# EAGLE library part BAS40BRW (library Diodes)
200mW Schottky Barrier Diode Rectifier BAS40BRW
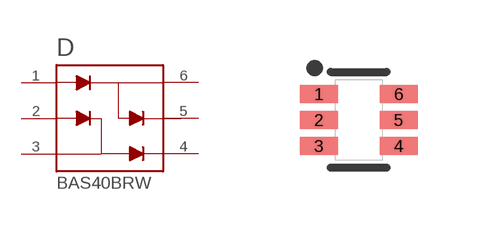
[diagram p0: symbol with the pads of SC-70-6; footprint SC-70-6]

Designator prefix D

## BAS40BRW  [SC-70-6]
1  1  pas
2  2  pas
3  3  pas
4  4  pas
5  5  pas
6  6  pas

## Footprint SC-70-6 (pad centres in mm)
SC-70-6 Copied from PhaseIV-ref-packages.lbr 10/30/13 Changelog: 10/30/13 - Changes to pads to tighten up area. Update tPlace for consistency. CN 04/16/13 - Rotate package. Change tPlace and text for better look (mm grid). CN
smd 0.95 x 0.45: 1 -1,0.65; 2 -1,0; 3 -1,-0.65; 4 1,-0.65; 5 1,0; 6 1,0.65